# EAGLE library part CON_EDGE_1MMX8 (library wheat)
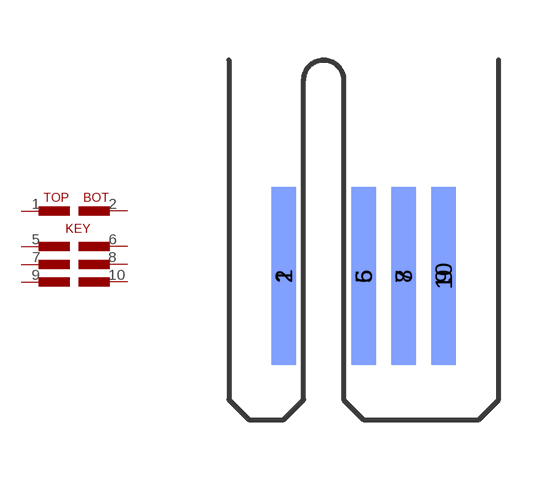
[diagram p189: symbol with the pads of CON_EDGE_1MMX8; footprint CON_EDGE_1MMX8]

Designator prefix P

## CON_EDGE_1MMX8  [CON_EDGE_1MMX8]
1  1
2  2
5  5
6  6
7  7
8  8
9  9
10  10

## Footprint CON_EDGE_1MMX8 (pad centres in mm)
smd 0.61 x 4.45: 1 1.374,3.59; 5 3.374,3.59; 7 4.374,3.59; 9 5.374,3.59
smd 0.61 x 4.45 bottom: 2 1.374,3.59; 6 3.374,3.59; 8 4.374,3.59; 10 5.374,3.59